# Altium footprint library Components.PcbLib: 7 footprints
Each footprint in its own frame and in the unit in brackets; x right, y up, seen from the top. Pads: shape width x height; smd on the part's side, far side on the other; paste and mask are expansions set on the pad; w line width, h text height; cw(c..) or ccw(c..) is an arc to the next point about the centre after c.
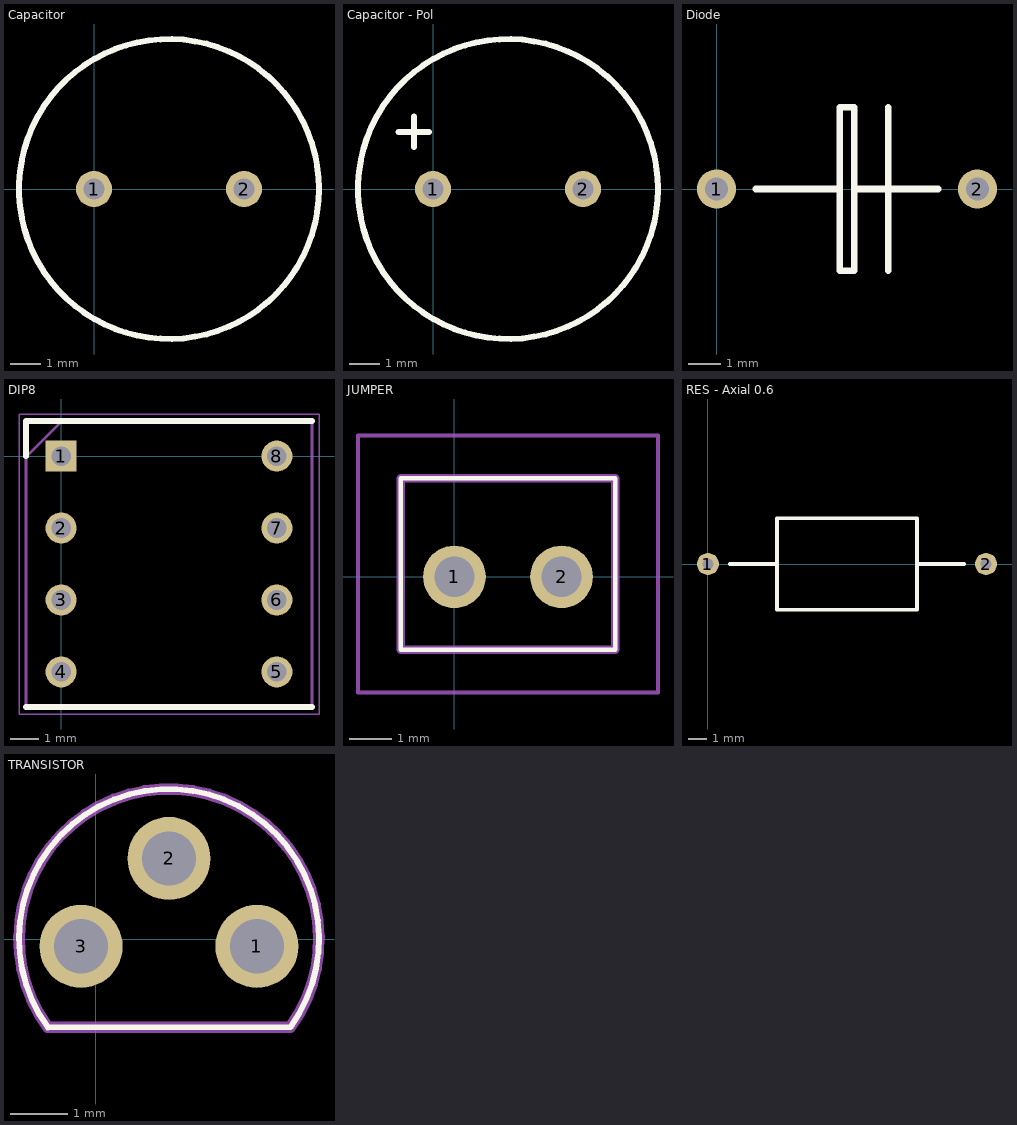
[diagram p0: the footprints below, top view; thin cyan lines are the x and y axes]

## Capacitor [mm]
pads (2):
  round 1.2 hole 0.7: 1(0,0) 2(5,0)
Top Overlay:
  circle w0.2: c2.5,0 r5

## Capacitor - Pol [mm]
pads (2):
  round 1.2 hole 0.7: 1(0,0) 2(5,0)
Top Overlay:
  circle w0.2: c2.5,0 r5
  lines w0.2: -1.143,1.905 -0.127,1.905 ; -0.635,1.397 -0.635,2.413

## Diode [mm]
pads (2):
  round 1.2 hole 0.7: 1(0,0) 2(8,0)
Top Overlay:
  lines w0.2: 1.2,0 3.775,0 ; 4.225,0 6.8,0 ; 5.258,-2.5 5.258,2.5 ; 3.775,0 3.775,2.5 4.225,2.5 4.225,-2.5 3.775,-2.5 3.775,0

## DIP8 [mm]
pads (8):
  rect 1.1x1.1 hole 0.7: 1(0,0)
  round 1.1 hole 0.7: 2(0,-2.54) 3(0,-5.08) 4(0,-7.62) 5(7.62,-7.62) 6(7.62,-5.08) 7(7.62,-2.54) 8(7.62,0)
Top Overlay:
  lines w0.2: -1.24,-8.86 8.86,-8.86 ; -1.24,0 -1.24,1.24 8.86,1.24
Mechanical 13:
  lines w0.1: -1.24,-0.03 0.03,1.24 ; -1.24,-8.86 8.86,-8.86 8.86,1.24 -1.24,1.24 -1.24,-8.86
Mechanical 15:
  lines w0.05: -1.49,-9.11 9.11,-9.11 9.11,1.49 -1.49,1.49 -1.49,-9.11

## JUMPER [mm]
pads (2):
  round 1.462 hole 0.94: 1(0,0) 2(2.5,0)
Top Overlay:
  lines w0.1: -1.25,-1.7 3.75,-1.7 3.75,2.3 -1.25,2.3 -1.25,-1.7
Mechanical 13:
  lines w0.2: -1.25,-1.7 3.75,-1.7 3.75,2.3 -1.25,2.3 -1.25,-1.7
Mechanical 15:
  lines w0.1: -2.25,-2.7 4.75,-2.7 4.75,3.3 -2.25,3.3 -2.25,-2.7
3D body "BPW41N.stp": height 7.7, standoff -5, extent -1.25,-1.7 3.75,2.3

## RES - Axial 0.6 [mm]
pads (2):
  round 1.2 hole 0.6: 1(0,0) 2(15.2,0)
Top Overlay:
  lines w0.2: 1.2,0 3.775,0 ; 11.425,0 14,0 ; 3.775,0 3.775,2.5 11.425,2.5 11.425,-2.5 3.775,-2.5 3.775,0

## TRANSISTOR [mm]
pads (3):
  round 1.44 hole 0.94: 1(2.794,-0.127) 2(1.27,1.397) 3(-0.254,-0.127)
Top Overlay:
  lines w0.1: -0.832,-1.53 3.372,-1.53 ; -0.831,-1.532 cw(c1.27,0) 3.373,-1.528
Mechanical 13:
  lines w0.2: -0.832,-1.53 3.372,-1.53 ; -0.831,-1.532 cw(c1.27,0) 3.373,-1.528